# Altium footprint library pedals-headers.PCBLIB: 17 footprints (part 2 of 2)
Each footprint in its own frame and in the unit in brackets; x right, y up, seen from the top. Pads: shape width x height; smd on the part's side, far side on the other; paste and mask are expansions set on the pad; w line width, h text height; cw(c..) or ccw(c..) is an arc to the next point about the centre after c.
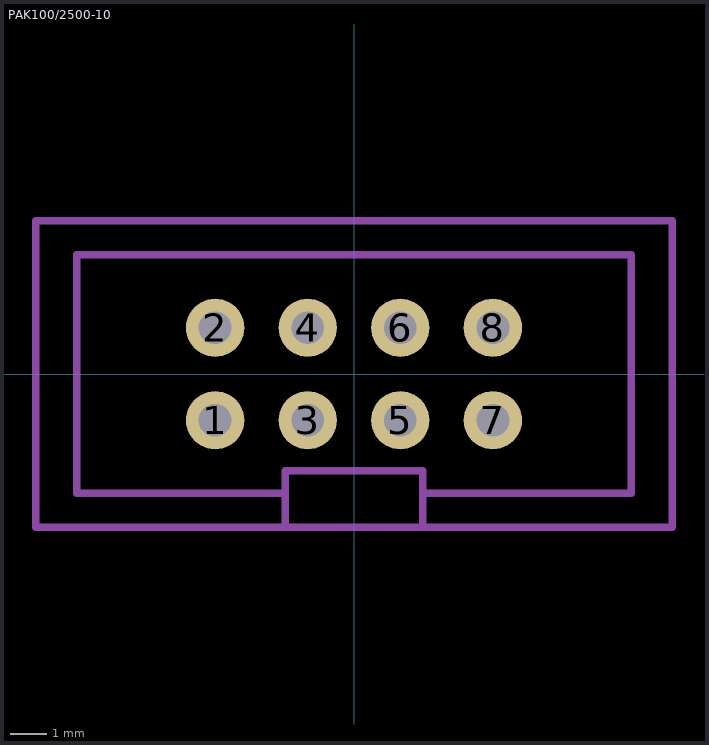
[diagram p1: the footprint, top view; thin cyan lines are the x and y axes]

## PAK100/2500-10 [mil]
pads (8):
  round 62.99 hole 35.43: 1(-150,-50) 2(-150,50) 3(-50,-50) 4(-50,50) 5(50,-50) 6(50,50) 7(150,-50) 8(150,50)
Mechanical 2:
  lines w8: -74.13,-165.35 -74.13,-128.94 ; -74.13,-165.35 74.13,-165.35 ; -74.13,-165.35 -343.7,-165.35 -343.7,165.35 343.7,165.35 343.7,-165.35 74.13,-165.35 ; -74.13,-128.94 -74.13,-104.33 74.13,-104.33 74.13,-128.94 ; -74.13,-128.94 -299.41,-128.94 -299.41,128.94 299.41,128.94 299.41,-128.94 74.13,-128.94 ; 74.13,-165.35 74.13,-128.94